# Altium footprint library TSSOP.PcbLib: 4 footprints
Each footprint in its own frame and in the unit in brackets; x right, y up, seen from the top. Pads: shape width x height; smd on the part's side, far side on the other; paste and mask are expansions set on the pad; w line width, h text height; cw(c..) or ccw(c..) is an arc to the next point about the centre after c.
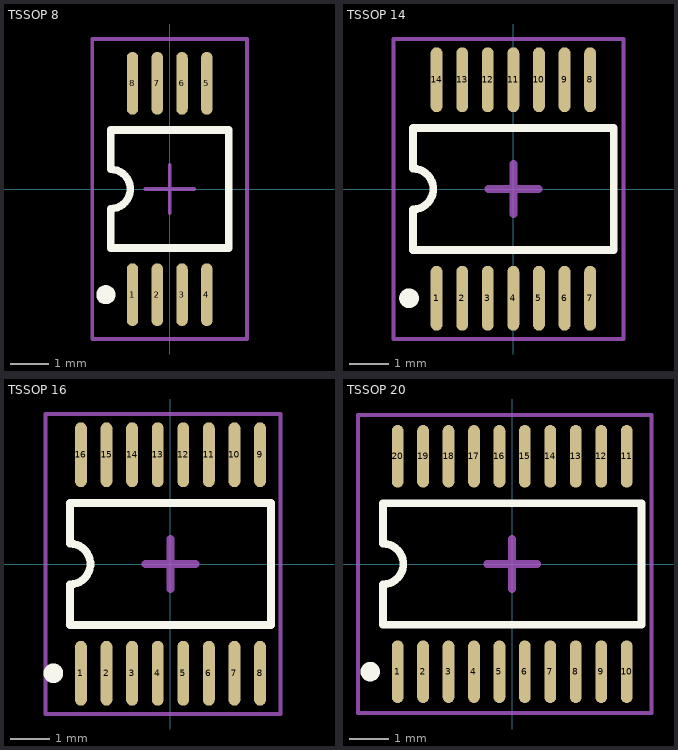
[diagram p0: the footprints below, top view; thin cyan lines are the x and y axes]

## TSSOP 8 [mm] "Shrink Small Outline, Plastic, Thin; 8 Leads; Body Width 4.4 mm; Pitch 0.65 mm"
height 1.1
pads (8):
  oval 0.3x1.65 smd: 1(-0.975,-2.775) 2(-0.325,-2.775) 3(0.325,-2.775) 4(0.975,-2.775) 5(0.975,2.775) 6(0.325,2.775) 7(-0.325,2.775) 8(-0.975,2.775)
Top Overlay:
  circle w0.25: c-1.675,-2.775 r0.125
  lines w0.2: -1.55,-1.55 1.55,-1.55 1.55,1.55 -1.55,1.55 -1.55,0.517 cw(c-1.55,0) -1.55,-0.517 -1.55,-1.55
Mechanical 15:
  lines w0.1: -0.635,0 0.635,0 ; 0,-0.635 0,0.635 ; -2.032,-3.937 -2.032,3.937 2.032,3.937 2.032,-3.937 -2.032,-3.937
3D body "User Library-tsop8.step": height 1.2, standoff 0, extent -1.55,-3.2 1.55,3.2

## TSSOP 14 [mm] "Shrink Small Outline; 14 Leads; Body Width 4.4 mm; Pitch 0.65 mm"
height 1.1
pads (14):
  oval 0.3x1.65 smd: 1(-1.95,-2.775) 2(-1.3,-2.775) 3(-0.65,-2.775) 4(0,-2.775) 5(0.65,-2.775) 6(1.3,-2.775) 7(1.95,-2.775) 8(1.95,2.775) 9(1.3,2.775) 10(0.65,2.775) 11(0,2.775) 12(-0.65,2.775) 13(-1.3,2.775) 14(-1.95,2.775)
Top Overlay:
  circle w0.25: c-2.65,-2.775 r0.125
  lines w0.2: -2.55,-1.55 2.55,-1.55 2.55,1.55 -2.55,1.55 -2.55,0.517 cw(c-2.55,0) -2.55,-0.517 -2.55,-1.55
Mechanical 15:
  lines w0.1: -3.048,-3.81 -3.048,3.81 2.794,3.81 2.794,-3.81 -3.048,-3.81
  lines w0.2: -0.635,0 0.635,0 ; 0,-0.635 0,0.635
3D body "User Library-TSSOP14-1.step": height 1.1, standoff 0, extent -2.5,-3.2 2.5,3.2

## TSSOP 16 [mm] "Shrink Small Outline; 16 Leads; Body Width 4.4 mm; Pitch 0.65 mm"
height 1.1
pads (16):
  oval 0.3x1.65 smd: 1(-2.275,-2.775) 2(-1.625,-2.775) 3(-0.975,-2.775) 4(-0.325,-2.775) 5(0.325,-2.775) 6(0.975,-2.775) 7(1.625,-2.775) 8(2.275,-2.775) 9(2.275,2.775) 10(1.625,2.775) 11(0.975,2.775) 12(0.325,2.775) 13(-0.325,2.775) 14(-0.975,2.775) 15(-1.625,2.775) 16(-2.275,2.775)
Top Overlay:
  circle w0.25: c-2.975,-2.775 r0.125
  lines w0.2: -2.55,-1.55 -2.55,-0.517 ccw(c-2.55,0) -2.55,0.517 -2.55,1.55 2.55,1.55 2.55,-1.55 -2.55,-1.55
Mechanical 15:
  lines w0.1: -3.175,-3.81 -3.175,3.81 2.794,3.81 2.794,-3.81 -3.175,-3.81
  lines w0.2: -0.635,0 0.635,0 ; 0,-0.635 0,0.635
3D body "User Library-AS3933-BTST.STEP": height 1.06, standoff -0.01, extent -2.55,-3.25 2.55,3.25

## TSSOP 20 [mm] "Shrink Small Outline; 20 Leads; Body Width 4.4 mm; Pitch 0.65 mm"
height 1.1
pads (20):
  oval 0.3x1.6 smd: 1(-2.925,-2.75) 2(-2.275,-2.75) 3(-1.625,-2.75) 4(-0.975,-2.75) 5(-0.325,-2.75) 6(0.325,-2.75) 7(0.975,-2.75) 8(1.625,-2.75) 9(2.275,-2.75) 10(2.925,-2.75) 11(2.925,2.75) 12(2.275,2.75) 13(1.625,2.75) 14(0.975,2.75) 15(0.325,2.75) 16(-0.325,2.75) 17(-0.975,2.75) 18(-1.625,2.75) 19(-2.275,2.75) 20(-2.925,2.75)
Top Overlay:
  circle w0.25: c-3.625,-2.75 r0.125
  lines w0.2: -3.3,-1.55 3.3,-1.55 3.3,1.55 -3.3,1.55 -3.3,0.52 cw(c-3.3,0) -3.3,-0.52 -3.3,-1.55
Mechanical 15:
  lines w0.1: -3.937,-3.81 3.556,-3.81 3.556,3.81 -3.937,3.81 -3.937,-3.81
  lines w0.2: -0.635,0 0.635,0 ; 0,-0.635 0,0.635
3D body "User Library-tssop-20-1.step": height 1.2, standoff 0, extent -3.3,-3.3 3.3,3.3